# EAGLE library part TPIC2810 (library robot)
8-Bit LED Driver with I2C Interface
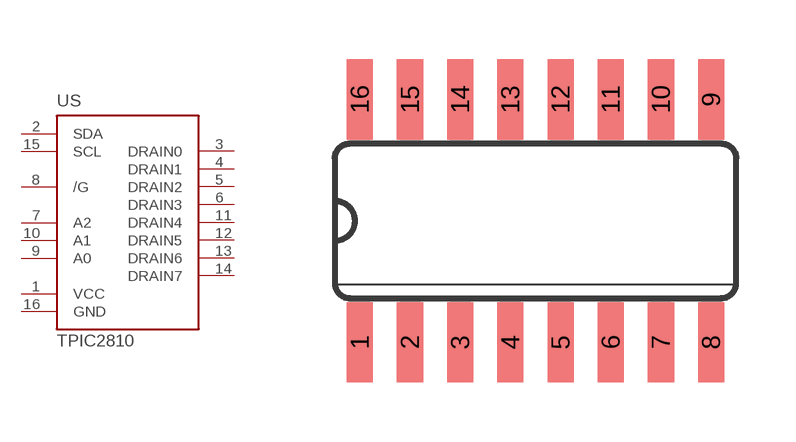
[diagram p5: symbol with the pads of SO16; footprint SO16]

Designator prefix US

## TPIC2810  [SO16]
1  VCC  pwr
2  SDA
3  DRAIN0  out
4  DRAIN1  out
5  DRAIN2  out
6  DRAIN3  out
7  A2  in
8  /G  in
9  A0  in
10  A1  in
11  DRAIN4  out
12  DRAIN5  out
13  DRAIN6  out
14  DRAIN7  out
15  SCL  in
16  GND  pwr

## Footprint SO16 (pad centres in mm)
Small Outline package 150 mil
smd 0.66 x 2.032: 1 -4.445,-3.073; 2 -3.175,-3.073; 3 -1.905,-3.073; 4 -0.635,-3.073; 5 0.635,-3.073; 6 1.905,-3.073; 7 3.175,-3.073; 8 4.445,-3.073; 9 4.445,3.073; 10 3.175,3.073; 11 1.905,3.073; 12 0.635,3.073; 13 -0.635,3.073; 14 -1.905,3.073; 15 -3.175,3.073; 16 -4.445,3.073